# Altium footprint library AltiumDabaseLib.PcbLib: 6 footprints
Each footprint in its own frame and in the unit in brackets; x right, y up, seen from the top. Pads: shape width x height; smd on the part's side, far side on the other; paste and mask are expansions set on the pad; w line width, h text height; cw(c..) or ccw(c..) is an arc to the next point about the centre after c.
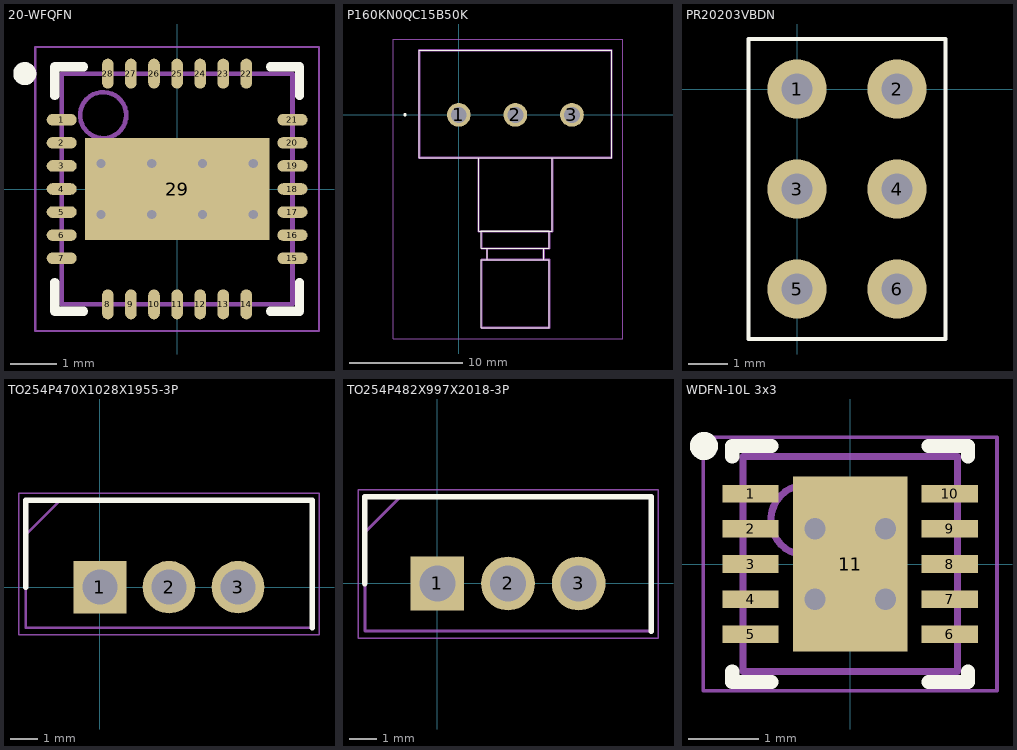
[diagram p0: the footprints below, top view; thin cyan lines are the x and y axes]

## 20-WFQFN [mm] "QFN, 28-Leads, Body 5,00x5,00mm, Pitch 0,50mm, Thermal Pad 4,00x2,20mm, IPC Medium Density"
height 0.8
pads (29):
  oval 0.65x0.25 smd: 1(-2.5,1.5) 2(-2.5,1) 3(-2.5,0.5) 4(-2.5,0) 5(-2.5,-0.5) 6(-2.5,-1) 7(-2.5,-1.5) 15(2.5,-1.5) 16(2.5,-1) 17(2.5,-0.5) 18(2.5,0) 19(2.5,0.5) 20(2.5,1) 21(2.5,1.5)
  oval 0.25x0.65 smd: 8(-1.5,-2.5) 9(-1,-2.5) 10(-0.5,-2.5) 11(0,-2.5) 12(0.5,-2.5) 13(1,-2.5) 14(1.5,-2.5) 22(1.5,2.5) 23(1,2.5) 24(0.5,2.5) 25(0,2.5) 26(-0.5,2.5) 27(-1,2.5) 28(-1.5,2.5)
  rect 4x2.2 smd: 29(0,0)
via -1.65,0.55 diameter 0.5 hole 0.2
via -0.55,0.55 diameter 0.5 hole 0.2
via 0.55,0.55 diameter 0.5 hole 0.2
via 1.65,0.55 diameter 0.5 hole 0.2
via -1.65,-0.55 diameter 0.5 hole 0.2
via -0.55,-0.55 diameter 0.5 hole 0.2
via 0.55,-0.55 diameter 0.5 hole 0.2
via 1.65,-0.55 diameter 0.5 hole 0.2
Top Overlay:
  circle w0.25: c-3.3,2.5 r0.125
  lines w0.2: -2.65,-2.025 -2.65,-2.65 -2.025,-2.65 ; -2.65,2.025 -2.65,2.65 -2.025,2.65 ; 2.025,-2.65 2.65,-2.65 2.65,-2.025 ; 2.025,2.65 2.65,2.65 2.65,2.025
Mechanical 13:
  circle w0.1: c-1.6,1.6 r0.5
  lines w0.1: -2.5,-2.5 -2.5,2.5 2.5,2.5 2.5,-2.5 -2.5,-2.5
Mechanical 15:
  lines w0.05: -3.075,-3.075 -3.075,3.075 3.075,3.075 3.075,-3.075 -3.075,-3.075
  lines w0.1: -0.5,0 0.5,0 ; 0,-0.5 0,0.5
3D body: height 0.8, standoff 0.05, extent -2.5,-2.5 2.5,2.5

## P160KN0QC15B50K [mm]
pads (3):
  round 2.1 hole 1.4: 1(0,0) 2(5,0) 3(10,0)
Top Overlay:
  lines w0.1: -3.5,-3.8 13.5,-3.8 13.5,5.7 -3.5,5.7 -3.5,-3.8 ; 1.75,-10.3 8.25,-10.3 8.25,-3.8 1.75,-3.8 1.75,-10.3 ; 2,-18.8 8,-18.8 8,-12.8 2,-12.8 2,-18.8 ; 2,-11.8 8,-11.8 8,-10.25 2,-10.25 2,-11.8 ; 2.5,-12.8 7.5,-12.8 7.5,-11.8 2.5,-11.8 2.5,-12.8
  lines w0.2: -4.8,0 ccw(c-4.75,0) -4.7,0 ; -4.8,0 cw(c-4.75,0) -4.7,0 ; -4.8,0 ccw(c-4.75,0) -4.7,0
Mechanical 13:
  lines w0.2: -3.5,-3.8 13.5,-3.8 13.5,5.7 -3.5,5.7 -3.5,-3.8 ; 1.75,-10.3 8.25,-10.3 8.25,-3.8 1.75,-3.8 1.75,-10.3 ; 2,-18.8 8,-18.8 8,-12.8 2,-12.8 2,-18.8 ; 2,-11.8 8,-11.8 8,-10.3 2,-10.3 2,-11.8 ; 2.5,-12.8 7.5,-12.8 7.5,-11.8 2.5,-11.8 2.5,-12.8
Mechanical 15:
  lines w0.1: -5.8,-19.8 14.5,-19.8 14.5,6.7 -5.8,6.7 -5.8,-19.8
3D body "User Library-Potentiometer.step": height 21.38, standoff -3.56, extent -3.382,-18.415 13.382,5.715

## PR20203VBDN [mm]
pads (6):
  round 1.5 hole 0.8: 1(0,0) 2(2.54,0) 3(0,-2.54) 4(2.54,-2.54) 5(0,-5.08) 6(2.54,-5.08)
Top Overlay:
  lines w0.1: -1.23,-6.35 3.77,-6.35 3.77,1.27 -1.23,1.27 -1.23,-6.31
3D body: height 6.1, standoff -5.5, extent 2.221,-5.399 2.859,-4.761
3D body: height 6.1, standoff -5.5, extent -0.319,-5.399 0.319,-4.761
3D body: height 6.1, standoff -5.5, extent 2.221,-2.859 2.859,-2.221
3D body: height 6.1, standoff -5.5, extent -0.319,-2.859 0.319,-2.221
3D body: height 6.1, standoff -5.5, extent 2.221,-0.319 2.859,0.319
3D body: height 6.1, standoff -5.5, extent -0.319,-0.319 0.319,0.319

## TO254P470X1028X1955-3P [mm]
pads (3):
  rect 1.935x1.935 hole 1.29: 1(0,0)
  round 1.935 hole 1.29: 2(2.54,0) 3(5.08,0)
Top Overlay:
  lines w0.2: -2.73,0 -2.73,3.2 7.81,3.2 7.81,-1.5
Mechanical 13:
  lines w0.1: -2.73,1.93 -1.46,3.2 ; -2.73,-1.5 -2.73,3.2 7.81,3.2 7.81,-1.5 -2.73,-1.5
Mechanical 15:
  lines w0.05: -2.98,-1.75 -2.98,3.45 8.06,3.45 8.06,-1.75 -2.98,-1.75
3D body "LM317AT_NOPB.stp": height 18.66, standoff -17.27, extent -2.602,-1.5 7.682,3.2

## TO254P482X997X2018-3P [mm]
pads (3):
  rect 1.935x1.935 hole 1.29: 1(0,0)
  round 1.935 hole 1.29: 2(2.54,0) 3(5.08,0)
Top Overlay:
  lines w0.2: -2.6,0 -2.6,3.11 7.68,3.11 7.68,-1.71
Mechanical 13:
  lines w0.1: -2.6,1.84 -1.33,3.11 ; -2.6,-1.71 7.68,-1.71 7.68,3.11 -2.6,3.11 -2.6,-1.71
Mechanical 15:
  lines w0.05: -2.85,-1.96 7.93,-1.96 7.93,3.36 -2.85,3.36 -2.85,-1.96
3D body "LM337BTG.stp": height 18.48, standoff -17.79, extent -2.445,-1.71 7.525,3.11

## WDFN-10L 3x3 [mm]
height 0.8
pads (11):
  rect 0.8x0.25 smd: 1(-1.415,1) 2(-1.415,0.5) 3(-1.415,0) 4(-1.415,-0.5) 5(-1.415,-1) 6(1.415,-1) 7(1.415,-0.5) 8(1.415,0) 9(1.415,0.5) 10(1.415,1)
  rect 1.63x2.48 smd: 11(0,0)
via 0.5,-0.5 diameter 0.6 hole 0.3
via -0.5,-0.5 diameter 0.6 hole 0.3
via 0.5,0.5 diameter 0.6 hole 0.3
via -0.5,0.5 diameter 0.6 hole 0.3
Top Overlay:
  circle w0.2: c-2.075,1.675 r0.1
  lines w0.2: -1.675,-1.525 -1.675,-1.675 -1.115,-1.675 ; -1.675,1.525 -1.675,1.675 -1.115,1.675 ; 1.115,-1.675 1.675,-1.675 1.675,-1.525 ; 1.115,1.675 1.675,1.675 1.675,1.525
Mechanical 13:
  circle w0.1: c-0.625,0.625 r0.5
  lines w0.1: -1.525,-1.525 1.525,-1.525 1.525,1.525 -1.525,1.525 -1.525,-1.525
Mechanical 15:
  lines w0.05: -2.085,-1.8 2.085,-1.8 2.085,1.8 -2.085,1.8 -2.085,-1.8
  lines w0.1: -0.5,0 0.5,0 ; 0,-0.5 0,0.5
3D body: height 0.8, standoff 0.05, extent -1.525,-1.525 1.525,1.525